# EAGLE library part PIC18F4550 (library pic18f4550)
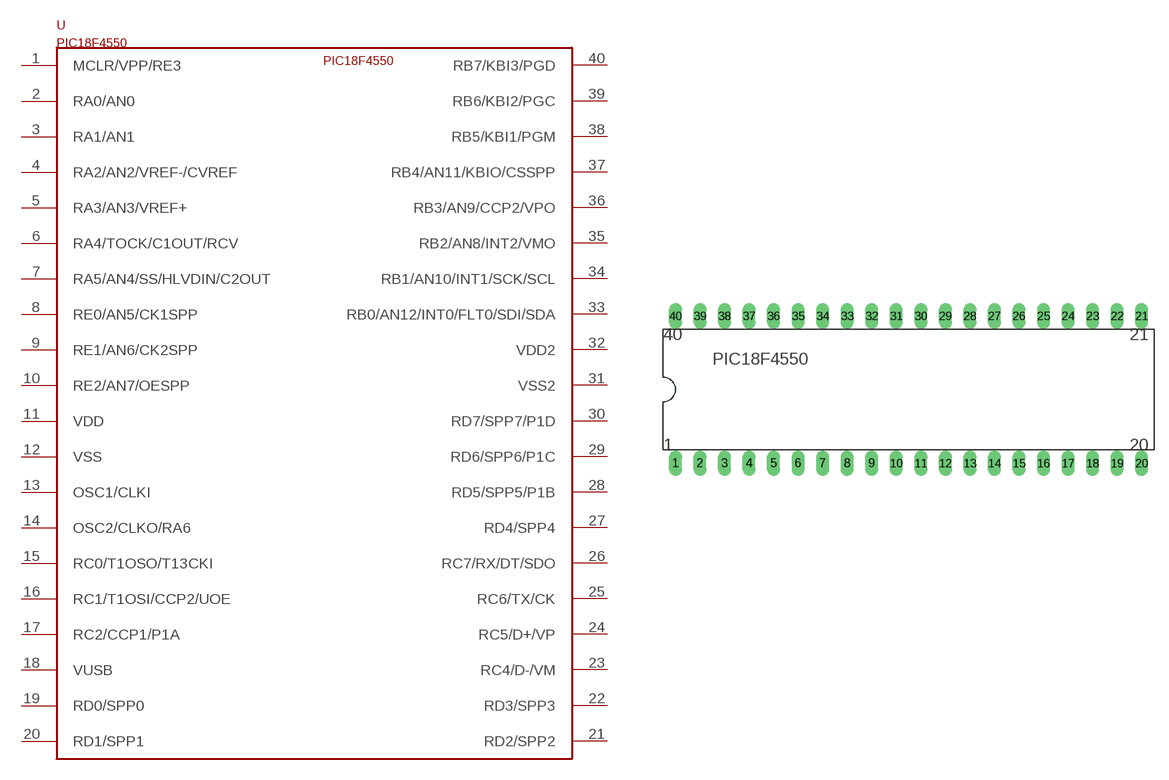
[diagram p0: symbol with the pads of PDIP-40; footprint PDIP-40]

Designator prefix -

## PIC18F4550  [PDIP-40]
1  MCLR/VPP/RE3  pwr
2  RA0/AN0
3  RA1/AN1
4  RA2/AN2/VREF-/CVREF
5  RA3/AN3/VREF+
6  RA4/TOCK/C1OUT/RCV
7  RA5/AN4/SS/HLVDIN/C2OUT
8  RE0/AN5/CK1SPP
9  RE1/AN6/CK2SPP
10  RE2/AN7/OESPP
11  VDD  pwr
12  VSS  pwr
13  OSC1/CLKI  in
14  OSC2/CLKO/RA6
15  RC0/T1OSO/T13CKI
16  RC1/T1OSI/CCP2/UOE
17  RC2/CCP1/P1A
18  VUSB
19  RD0/SPP0
20  RD1/SPP1
21  RD2/SPP2
22  RD3/SPP3
23  RC4/D-/VM
24  RC5/D+/VP
25  RC6/TX/CK
26  RC7/RX/DT/SDO
27  RD4/SPP4
28  RD5/SPP5/P1B
29  RD6/SPP6/P1C
30  RD7/SPP7/P1D
31  VSS2  pwr
32  VDD2  pwr
33  RB0/AN12/INT0/FLT0/SDI/SDA
34  RB1/AN10/INT1/SCK/SCL
35  RB2/AN8/INT2/VMO
36  RB3/AN9/CCP2/VPO
37  RB4/AN11/KBIO/CSSPP
38  RB5/KBI1/PGM
39  RB6/KBI2/PGC
40  RB7/KBI3/PGD

## Footprint PDIP-40 (pad centres in mm)
drill 0.813 long: 1 -19.05,-8.89; 2 -16.51,-8.89; 3 -13.97,-8.89; 4 -11.43,-8.89; 5 -8.89,-8.89; 6 -6.35,-8.89; 7 -3.81,-8.89; 8 -1.27,-8.89; 9 1.27,-8.89; 10 3.81,-8.89; 11 6.35,-8.89; 12 8.89,-8.89; 13 11.43,-8.89; 14 13.97,-8.89; 15 16.51,-8.89; 16 19.05,-8.89; 17 21.59,-8.89; 18 24.13,-8.89; 19 26.67,-8.89; 20 29.21,-8.89; 21 29.21,6.35; 22 26.67,6.35; 23 24.13,6.35; 24 21.59,6.35; 25 19.05,6.35; 26 16.51,6.35; 27 13.97,6.35; 28 11.43,6.35; 29 8.89,6.35; 30 6.35,6.35; 31 3.81,6.35; 32 1.27,6.35; 33 -1.27,6.35; 34 -3.81,6.35; 35 -6.35,6.35; 36 -8.89,6.35; 37 -11.43,6.35; 38 -13.97,6.35; 39 -16.51,6.35; 40 -19.05,6.35